# Altium footprint library Altium-PROT.PcbLib: 29 footprints (part 1 of 2)
Each footprint in its own frame and in the unit in brackets; x right, y up, seen from the top. Pads: shape width x height; smd on the part's side, far side on the other; paste and mask are expansions set on the pad; w line width, h text height; cw(c..) or ccw(c..) is an arc to the next point about the centre after c.
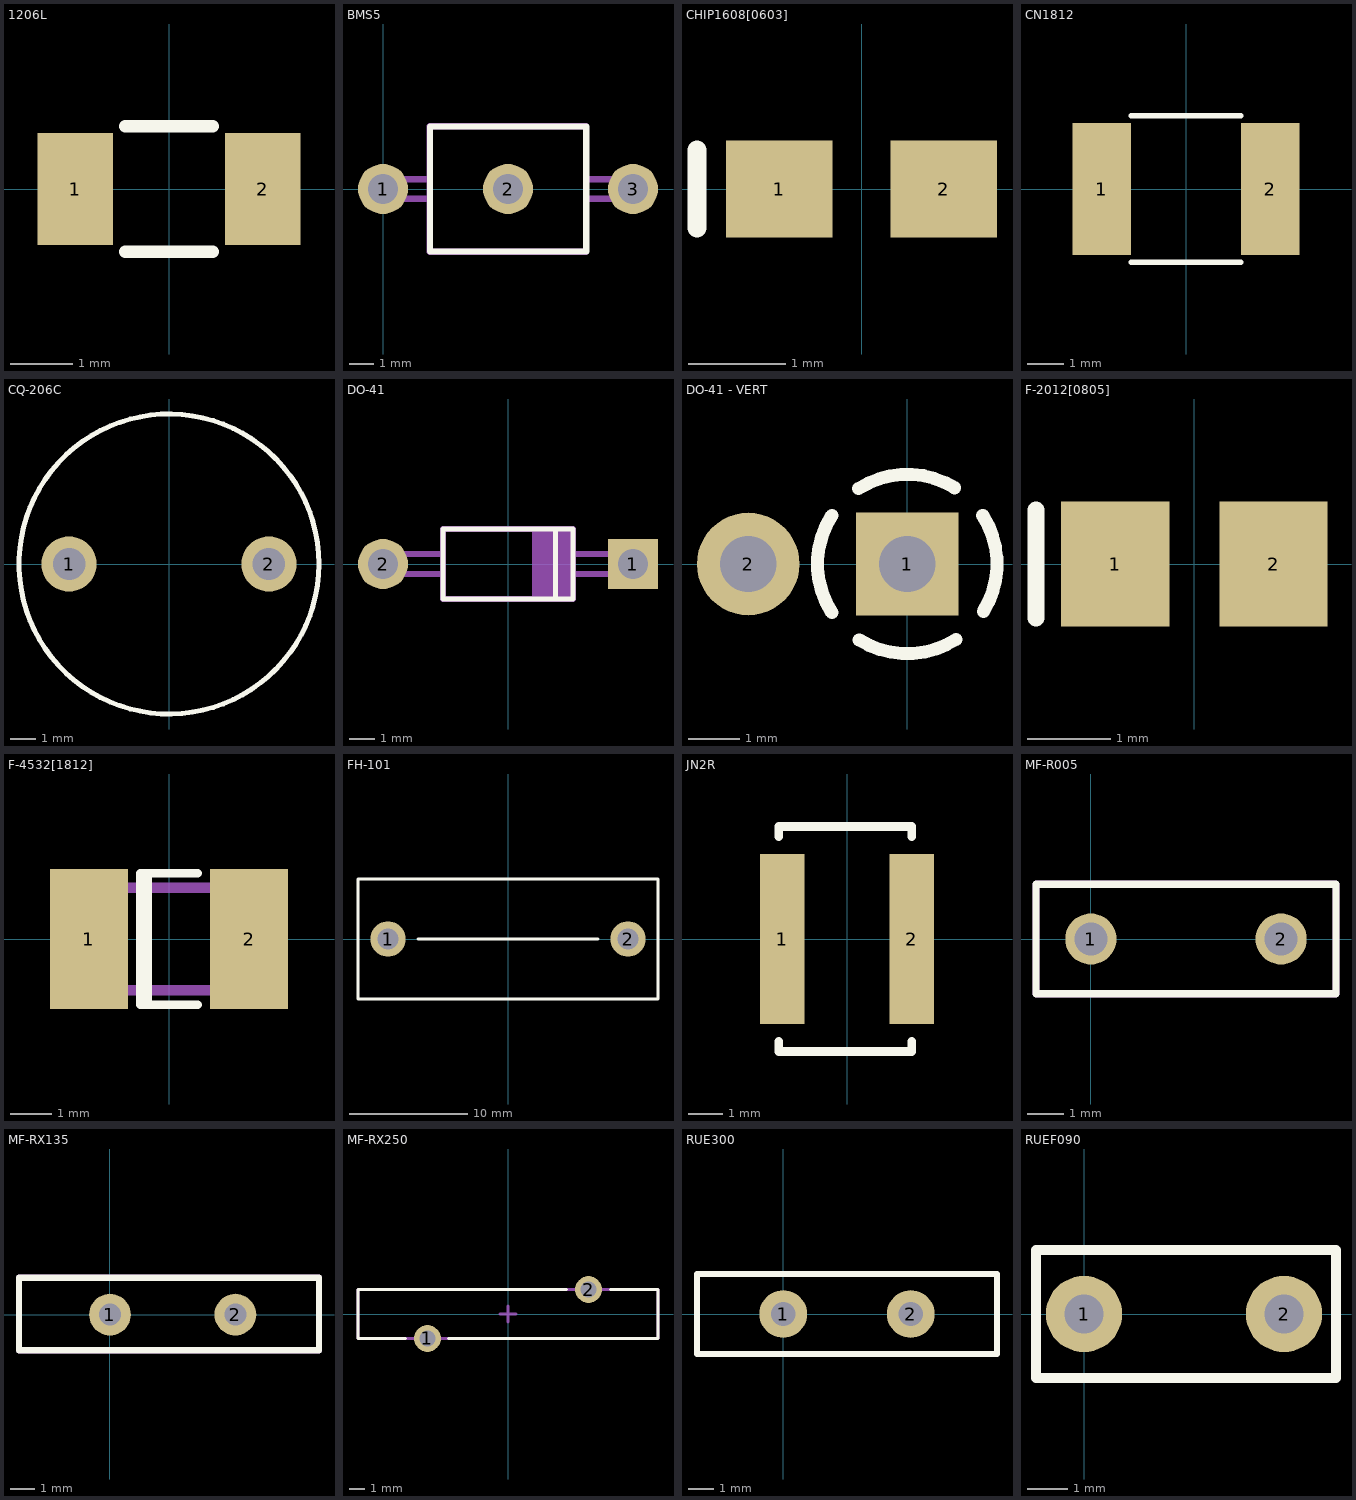
[diagram p0: the footprints below, top view; thin cyan lines are the x and y axes]

## 1206L [mm]
pads (2):
  rect 1.2x1.8 smd: 1(-1.5,0) 2(1.5,0)
Top Overlay:
  lines w0.2: -0.7,-1 0.7,-1 ; -0.7,1 0.7,1

## BMS5 [mil]
height 314.96
pads (3):
  round 80 hole 47.24: 1(0,0) 2(200,0) 3(400,0)
Top Overlay:
  lines w10: 75,-100 75,100 325,100 325,-100 75,-100
Mechanical 13:
  lines w10: 74.8,-15.75 0,-15.75 cw(c0,0) 0,15.75 74.8,15.75 ; 324.8,-15.75 399.61,-15.75 ccw(c399.61,0) 399.61,15.75 324.8,15.75 ; 74.8,-100.39 324.8,-100.39 324.8,100.39 74.8,100.39 74.8,-100.39
  text ".Designator" at 62.01,135.83 h78.74
3D body: height 236.22, standoff 196.85, extent -20,-20 420,20
3D body: height 314.96, standoff 118.11, extent 75.02,-99.98 324.98,99.98

## CHIP1608[0603] [mm]
height 0.55
pads (2):
  rect 1.1x1 smd: 1(-0.85,0) 2(0.85,0)
Top Overlay:
  lines w0.2: -1.7,-0.4 -1.7,0.4
3D body: height 0.37, standoff 0, extent -0.8,-0.401 0.8,0.401

## CN1812 [mm]
height 2.3
pads (2):
  rect 1.6x3.6 smd: 1(-2.3,0) 2(2.3,0)
Top Overlay:
  lines w0.152: -1.5,-2 1.5,-2 ; -1.5,2 1.5,2
3D body: height 1.5, standoff 0, extent -2.25,-1.6 2.25,1.6

## CQ-206C [mm] "PANEL MOUNT FUSE BLOCK"
pads (2):
  round 2.2 hole 1.3: 1(-4,0) 2(4,0)
Top Overlay:
  circle w0.2: c0,0 r6

## DO-41 [mm]
height 6
pads (2):
  rect 2x2 hole 1.2: 1(5,0)
  round 2 hole 1.2: 2(-5,0)
Top Overlay:
  lines w0.2: 1.9,-1.4 1.9,1.4 ; -2.6,-1.4 2.6,-1.4 2.6,1.4 0,1.4 -2.6,1.4 -2.6,-1.4
Mechanical 13:
  rectangle: 0.95,-1.4 2.6,1.4
  lines w0.254: -2.6,-0.4 -5,-0.4 cw(c-5,0) -5,0.4 -2.6,0.4 ; 2.65,-0.4 5,-0.4 ccw(c5,0) 5,0.4 2.65,0.4 ; -2.6,-1.4 2.6,-1.4 2.6,1.4 -2.6,1.4 -2.6,-1.4
  text ".Designator" at -3.775,2.45 h2
3D body: height 5, standoff 4, extent -5.588,-0.508 5.588,0.508
3D body: height 6, standoff 3, extent -2.7,-1.5 2.7,1.5

## DO-41 - VERT [mm]
height 8.2
pads (2):
  rect 2x2 hole 1.1: 1(0,0)
  round 2 hole 1.1: 2(-3.1,0)
Top Overlay:
  lines w0.254: -1.472,-0.946 cw(c0,0) -1.472,0.946 ; -0.946,1.472 cw(c0,0) 0.923,1.487 ; -0.936,-1.478 ccw(c0,0) 0.946,-1.472 ; 1.472,0.946 cw(c0,0) 1.487,-0.923
3D body: height 6.7, standoff 1.5, extent -1.345,-1.35 1.345,1.345

## F-2012[0805] [mm]
height 1.1
pads (2):
  rect 1.3x1.5 smd: 1(-0.95,0) 2(0.95,0)
Top Overlay:
  lines w0.2: -1.9,-0.65 -1.9,0.65
3D body: height 0.5, standoff 0, extent -1.005,-0.635 1.025,0.635

## F-4532[1812] [mm]
height 1
pads (2):
  rect 1.9x3.4 smd: 1(-1.95,0) 2(1.95,0)
Top Overlay:
  lines w0.2: -0.51,-1.6 -0.51,1.6 ; 0.7,-1.6 -0.7,-1.6 -0.7,1.6 0.7,1.6
Mechanical 13:
  lines w0.254: -2,-0.5 -2,-1.25 2,-1.25 2,-0.5 cw(c2,0) 2,0.5 2,1.25 -2,1.25 -2,0.5 ; -1.95,-0.5 ccw(c-1.95,0) -1.95,0.5
  text ".Designator" at -2.875,2.4 h2
3D body: height 1.1, standoff 0, extent -2.25,-1.6 2.25,1.6

## FH-101 [mil]
height 123.62
pads (2):
  round 118 hole 70: 1(-400,0) 2(400,0)
Top Overlay:
  lines w10: -300,0 300,0 ; -500,-200 500,-200 500,200 -500,200 -500,-200
3D body: height 527.56, standoff 0, extent -505,-205 505,205

## JN2R [mm]
height 5.5
pads (2):
  rect 1.3x5 smd: 1(-1.9,0) 2(1.9,0)
Top Overlay:
  lines w0.254: -2,-3 -2,-3.3 1.9,-3.3 1.9,-3 ; -2,3 -2,3.3 1.9,3.3 1.9,3
3D body: height 4.98, standoff 0, extent -2.1,-2.495 2.1,2.495

## MF-R005 [mm]
pads (2):
  round 1.4 hole 0.9: 1(0,0)
  round 1.4 hole 0.9 unplated: 2(5.2,0)
Top Overlay:
  lines w0.2: -1.5,-1.5 -1.5,1.5 6.7,1.5 6.7,-1.5 -1.5,-1.5
Mechanical 13:
  lines w0.2: -1.5,-1.5 6.7,-1.5 6.7,1.5 -1.5,1.5 -1.5,-1.5

## MF-RX135 [mm]
height 18.26
pads (2):
  round 1.7 hole 0.9: 1(0,0) 2(5.1,0)
Top Overlay:
  lines w0.254: -3.7,-1.45 8.5,-1.45 8.5,1.5 -3.7,1.5 -3.7,-1.45
Mechanical 13:
  lines w0.254: -3.7,-1.45 -3.7,1.5 8.5,1.5 8.5,-1.45 -3.7,-1.45
  text ".Designator" at -3.475,2.35 h2
3D body: height 18, standoff 6, extent -3.7,-1.5 8.5,1.5
3D body: height 6, standoff 0, extent -0.8,-0.8 0.794,0.797
3D body: height 6, standoff 0, extent 4.3,-0.8 5.894,0.797

## MF-RX250 [mm]
height 23.84
pads (2):
  round 1.7 hole 1: 1(-5.1,-1.55) 2(5.1,1.55)
Top Overlay:
  lines w0.2: -6.5,-1.55 -9.5,-1.55 -9.5,1.55 3.7,1.55 ; -3.75,-1.55 9.5,-1.55 ; 6.5,1.55 9.5,1.55 9.5,-1.55 ; 6.8,-1.55 9.5,-1.55
Mechanical 13:
  lines w0.2: -9.5,-1.55 -9.5,1.55 9.5,1.55 9.5,-1.55 -9.5,-1.55
Mechanical 15:
  lines w0.2: -0.5,0 0.5,0 ; 0,-0.5 0,0.5
3D body: height 8, standoff 0, extent -5.6,-2.05 -4.604,-1.052
3D body: height 8, standoff 0, extent 4.6,1.05 5.596,2.048
3D body: height 23.84, standoff 6, extent -9.5,-1.55 9.5,1.55

## RUE300 [mil]
pads (2):
  round 75 hole 38: 1(0,0) 2(200.79,0)
Top Overlay:
  lines w10: -135.83,-62.99 336.61,-62.99 336.61,62.99 -135.83,62.99 -135.83,0 -135.83,-62.99
3D body: height 0, standoff 0, extent -140.83,-67.99 341.61,67.99

## RUEF090 [mil]
pads (2):
  round 75 hole 38: 1(0,0) 2(196.85,0)
Top Overlay:
  lines w10: -47.24,-62.99 248.03,-62.99 248.03,62.99 -47.24,62.99 -47.24,-62.99
3D body: height 0, standoff 0, extent -47.24,-66.93 248.03,62.99